# EAGLE library part 74HC139 (library Quynn)
Dual 2-to-4 Line Decoder / Demultiplexer
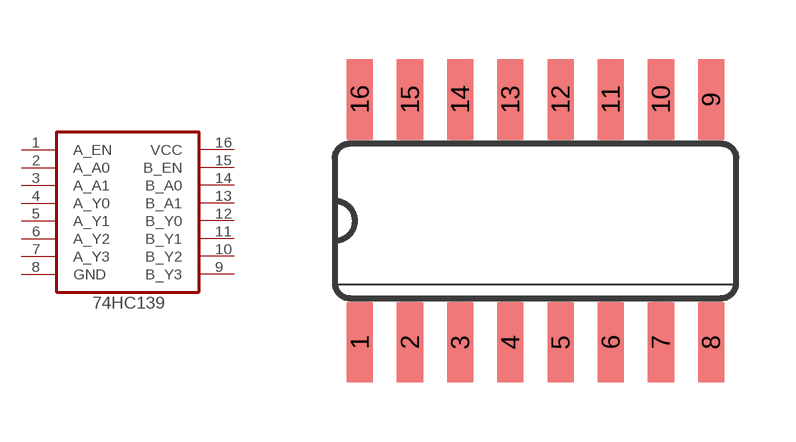
[diagram p0: symbol with the pads of SO16; footprint SO16]

Designator prefix -

## 74HC139  [SO16]
1  A_EN  hiz
2  A_A0  in
3  A_A1  pwr
4  A_Y0  in
5  A_Y1  in
6  A_Y2  in
7  A_Y3  in
8  GND  in
9  B_Y3  in
10  B_Y2  in
11  B_Y1  pwr
12  B_Y0  in
13  B_A1  in
14  B_A0  in
15  B_EN  pwr
16  VCC  out

## Footprint SO16 (pad centres in mm)
Small Outline package 150 mil
smd 0.66 x 2.032: 1 -4.445,-3.073; 2 -3.175,-3.073; 3 -1.905,-3.073; 4 -0.635,-3.073; 5 0.635,-3.073; 6 1.905,-3.073; 7 3.175,-3.073; 8 4.445,-3.073; 9 4.445,3.073; 10 3.175,3.073; 11 1.905,3.073; 12 0.635,3.073; 13 -0.635,3.073; 14 -1.905,3.073; 15 -3.175,3.073; 16 -4.445,3.073